# EAGLE library part RMS-11X (library minicircuits)
Frequency mixer LO power level: 7 dBm LO/RF: 5 MHz - 1900 MHz IF: 2 MHz - 1000 MHz Max conversion loss: 9.8 dB Absolute maximum rating: RF power: 100 mW IF current: 40 mA
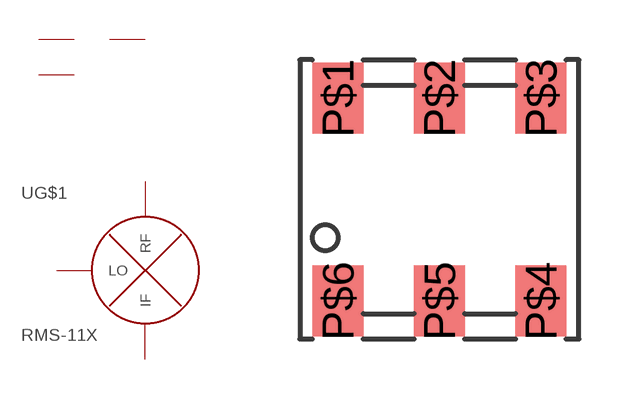
[diagram p4: symbol with the pads of TT240; footprint TT240]

Designator prefix -; gates G$1=RF-MIXER G$2=GND G$3=GND G$4=GND

## RMS-11X  [TT240]
P$1  G$1:LO
P$2  G$2:GND  pwr
P$3  G$3:GND  pwr
P$4  G$1:IF
P$5  G$1:RF
P$6  G$4:GND  pwr

## Footprint TT240 (pad centres in mm)
smd 1.27 x 1.778: P$1 0.635,6.032; P$2 3.175,6.032; P$3 5.715,6.032; P$4 5.715,0.953; P$5 3.175,0.953; P$6 0.635,0.953